# Altium schematic symbol library CMT4502.SchLib: 1 symbol
Pins are listed as number, name and electrical type; pins without a type are passive.

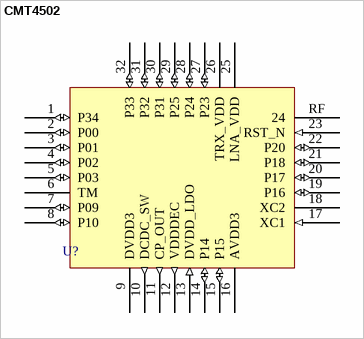
[diagram p0: symbol CMT4502]

## CMT4502
designator U?  (value not drawn)
Bluetooth Receiver; ComponentLink1Description: https://www.microchip.ua/wireless/cmt4502.pdf; ComponentLink1URL: *
pins: 1 P34 (io), 2 P00 (io), 3 P01 (io), 4 P02 (io), 5 P03 (io), 6 TM, 7 P09 (io), 8 P10 (io), 9 DVDD3 (power), 10 DCDC_SW (out), 11 CP_OUT (out), 12 VDDDEC (out), 13 DVDD_LDO (in), 14 P14 (io), 15 P15 (io), 16 AVDD3 (power), 17 XC1 (in), 18 XC2, 19 P16 (io), 20 P17 (io), 21 P18 (io), 22 P20 (io), 23 RST_N (in), 25 LNA_VDD, 26 TRX_VDD, 27 P23 (io), 28 P24 (io), 29 P25 (io), 30 P31 (io), 31 P32 (io), 32 P33 (io), RF 24 (oc)